# Altium integrated library BB Converter Digital to Analog.IntLib: 269 symbols (part 4 of 6)
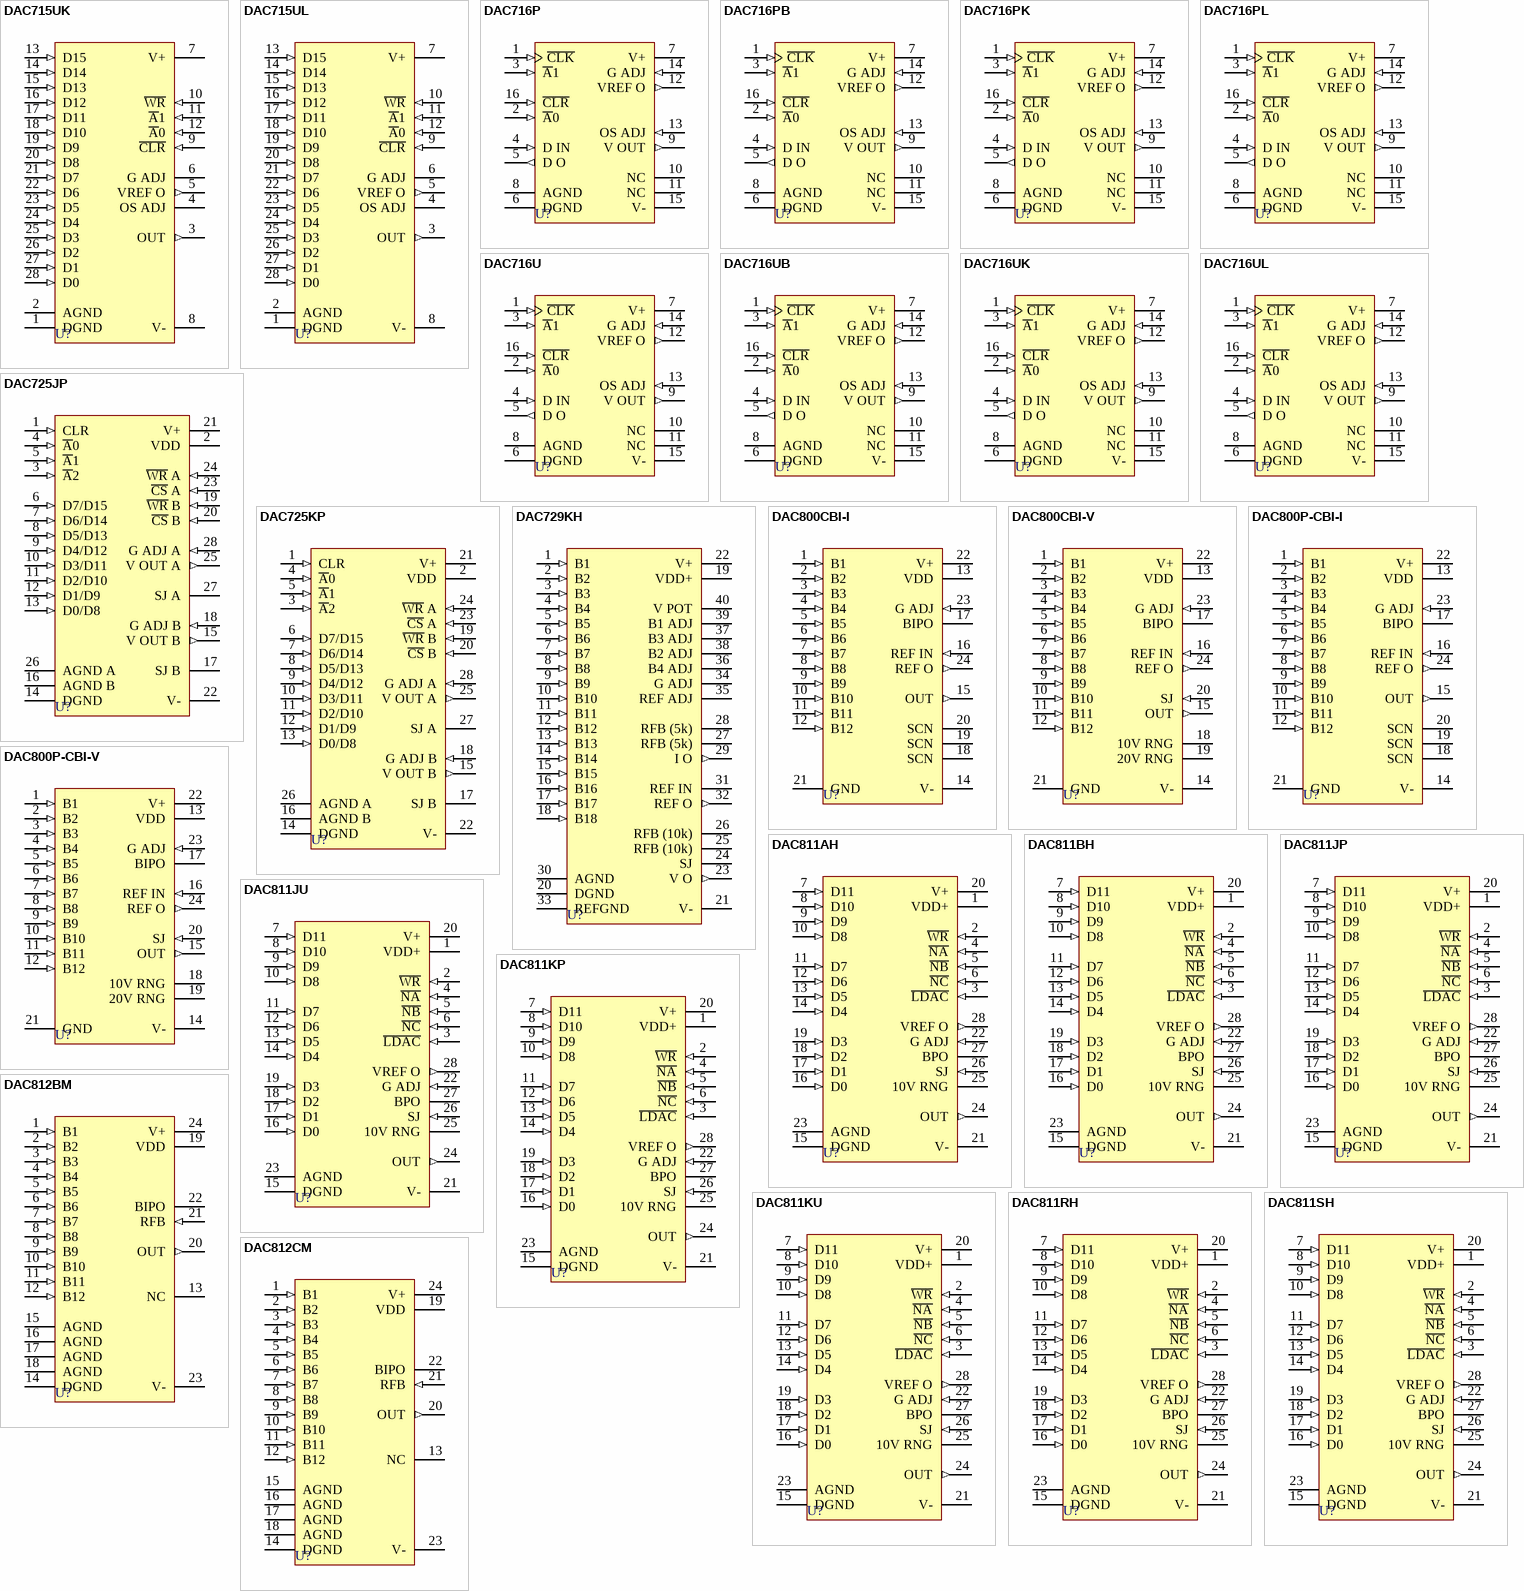
[diagram p13: symbols DAC715UK to DAC812CM]

## DAC812CM
designator U?
Ultra-High-Speed Digital-to-Analog Converter; Note: Pin 13 is No internal Connection pin.; Published: 8-Jun-2000; LatestRevisionDate: 17-Jul-2002; LatestRevisionNote: Re-released for DXP Platform.; DatasheetVersion: 1989; PackageVersion: 1994; PackageReference: ZZ113; Publisher: Altium Limited; PackageDescription: DIP; 24 Round Pins; Row Space 15.24 mm; Pitch 2.54 mm; ComponentLink1Description: Manufacturer Link; ComponentLink1URL: http://www.ti.com/
footprint ZZ113 (DIP; 24 Round Pins; Row Space 15.24 mm; Pitch 2.54 mm)
pins: 1 B1 (in), 2 B2 (in), 3 B3 (in), 4 B4 (in), 5 B5 (in), 6 B6 (in), 7 B7 (in), 8 B8 (in), 9 B9 (in), 10 B10 (in), 11 B11 (in), 12 B12 (in), 13 NC, 14 DGND (power), 15 AGND (power), 16 AGND (power), 17 AGND (power), 18 AGND (power), 19 VDD (power), 20 OUT (out), 21 RFB (in), 22 BIPO, 23 V- (power), 24 V+ (power)

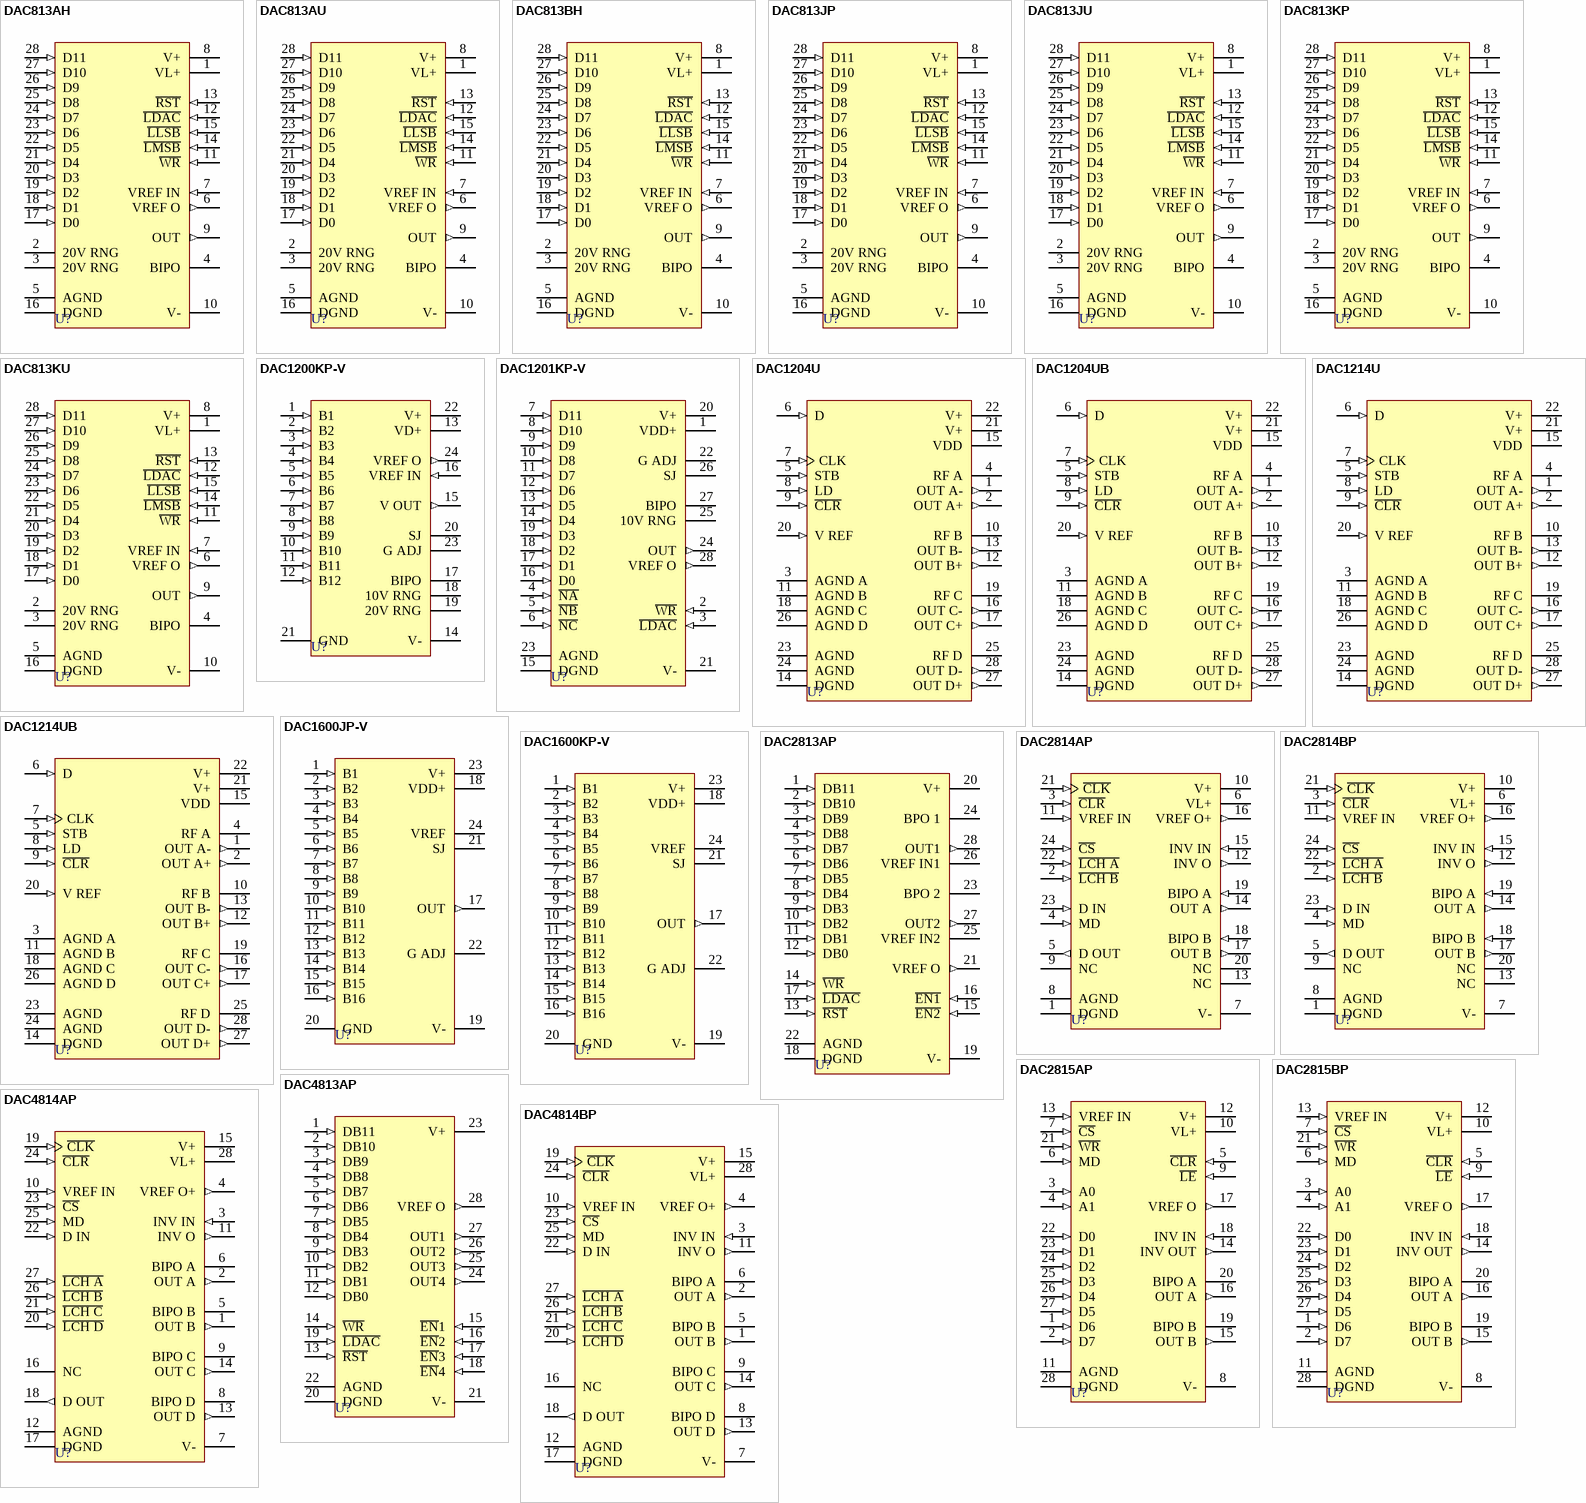
[diagram p6: symbols DAC813AH to DAC4814BP]

## DAC813AH
designator U?
Microprocessor-Compatible 12-Bit Digital-to-Analog Converter; Published: 8-Jun-2000; LatestRevisionDate: 06-Jun-2005; LatestRevisionNote: Stylized 3D Model Added.; DatasheetVersion: 1996~1997; PackageVersion: 1994; PackageReference: 247; Publisher: Altium Limited; PackageDescription: DIP; 28 Leads; Row Spacing 7.62 mm; Pitch 2.54 mm; ComponentLink1Description: Manufacturer Link; ComponentLink1URL: http://www.ti.com/; ComponentLink2Description: Datasheet; ComponentLink2URL: http://www-s.ti.com/sc/ds/dac813.pdf
footprint 247 (DIP; 28 Leads; Row Spacing 7.62 mm; Pitch 2.54 mm)
3D model 246D (DIP; 28 Leads; Row Spacing 7.62 mm; Pitch 2.54 mm)
pins: 1 VL+ (power), 2 20V RNG, 3 20V RNG, 4 BIPO, 5 AGND (power), 6 VREF O (out), 7 VREF IN (in), 8 V+ (power), 9 OUT (out), 10 V- (power), 11 ~{WR} (in), 12 ~{LDAC} (in), 13 ~{RST} (in), 14 ~{LMSB} (in), 15 ~{LLSB} (in), 16 DGND (power), 17 D0 (in), 18 D1 (in), 19 D2 (in), 20 D3 (in), 21 D4 (in), 22 D5 (in), 23 D6 (in), 24 D7 (in), 25 D8 (in), 26 D9 (in), 27 D10 (in), 28 D11 (in)

## DAC813AU
designator U?
Microprocessor-Compatible 12-Bit Digital-to-Analog Converter; Published: 8-Jun-2000; LatestRevisionDate: 13-Apr-2006; LatestRevisionNote: IPC-7351 Footprint Added.; DatasheetVersion: Mar-1998; PackageReference: 217G; Publisher: Altium Limited; PackageDescription: 28-Pin Small Outline Integrated Circuit 1.27 mm Pitch; ComponentLink1Description: Manufacturer Link; ComponentLink1URL: http://www.ti.com/; ComponentLink2Description: Datasheet; ComponentLink2URL: http://www-s.ti.com/sc/ds/DAC813.pdf
footprint 217G_N (SOIC, 28-Leads, Body 17.9x7.5mm, Pitch 1.27mm, IPC Medium Density)
footprint 217G_L (SOIC, 28-Leads, Body 17.9x7.5mm, Pitch 1.27mm, IPC High Density)
footprint 217G_M (SOIC, 28-Leads, Body 17.9x7.5mm, Pitch 1.27mm, IPC Low Density)
3D model 217G (28-Pin Small Outline Integrated Circuit 1.27 mm Pitch)
pins: 1 VL+ (power), 2 20V RNG, 3 20V RNG, 4 BIPO, 5 AGND (power), 6 VREF O (out), 7 VREF IN (in), 8 V+ (power), 9 OUT (out), 10 V- (power), 11 ~{WR} (in), 12 ~{LDAC} (in), 13 ~{RST} (in), 14 ~{LMSB} (in), 15 ~{LLSB} (in), 16 DGND (power), 17 D0 (in), 18 D1 (in), 19 D2 (in), 20 D3 (in), 21 D4 (in), 22 D5 (in), 23 D6 (in), 24 D7 (in), 25 D8 (in), 26 D9 (in), 27 D10 (in), 28 D11 (in)

## DAC813BH
designator U?
Microprocessor-Compatible 12-Bit Digital-to-Analog Converter; Published: 8-Jun-2000; LatestRevisionDate: 06-Jun-2005; LatestRevisionNote: Stylized 3D Model Added.; DatasheetVersion: 1996~1997; PackageVersion: 1994; PackageReference: 247; Publisher: Altium Limited; PackageDescription: DIP; 28 Leads; Row Spacing 7.62 mm; Pitch 2.54 mm; ComponentLink1Description: Manufacturer Link; ComponentLink1URL: http://www.ti.com/; ComponentLink2Description: Datasheet; ComponentLink2URL: http://www-s.ti.com/sc/ds/dac813.pdf
footprint 247 (DIP; 28 Leads; Row Spacing 7.62 mm; Pitch 2.54 mm)
3D model 246D (DIP; 28 Leads; Row Spacing 7.62 mm; Pitch 2.54 mm)
pins: 1 VL+ (power), 2 20V RNG, 3 20V RNG, 4 BIPO, 5 AGND (power), 6 VREF O (out), 7 VREF IN (in), 8 V+ (power), 9 OUT (out), 10 V- (power), 11 ~{WR} (in), 12 ~{LDAC} (in), 13 ~{RST} (in), 14 ~{LMSB} (in), 15 ~{LLSB} (in), 16 DGND (power), 17 D0 (in), 18 D1 (in), 19 D2 (in), 20 D3 (in), 21 D4 (in), 22 D5 (in), 23 D6 (in), 24 D7 (in), 25 D8 (in), 26 D9 (in), 27 D10 (in), 28 D11 (in)

## DAC813JP
designator U?
Microprocessor-Compatible 12-Bit Digital-to-Analog Converter; Published: 8-Jun-2000; LatestRevisionDate: 06-Jun-2005; LatestRevisionNote: Stylized 3D Model Added.; DatasheetVersion: Mar-1998; PackageVersion: revD; PackageReference: 246D; Publisher: Altium Limited; PackageDescription: DIP; 28 Leads; Row Spacing 7.62 mm; Pitch 2.54 mm; ComponentLink1Description: Manufacturer Link; ComponentLink1URL: http://www.ti.com/; ComponentLink2Description: Datasheet; ComponentLink2URL: http://www-s.ti.com/sc/ds/DAC813.pdf
footprint 246D (DIP; 28 Leads; Row Spacing 7.62 mm; Pitch 2.54 mm)
3D model 246D (DIP; 28 Leads; Row Spacing 7.62 mm; Pitch 2.54 mm)
pins: 1 VL+ (power), 2 20V RNG, 3 20V RNG, 4 BIPO, 5 AGND (power), 6 VREF O (out), 7 VREF IN (in), 8 V+ (power), 9 OUT (out), 10 V- (power), 11 ~{WR} (in), 12 ~{LDAC} (in), 13 ~{RST} (in), 14 ~{LMSB} (in), 15 ~{LLSB} (in), 16 DGND (power), 17 D0 (in), 18 D1 (in), 19 D2 (in), 20 D3 (in), 21 D4 (in), 22 D5 (in), 23 D6 (in), 24 D7 (in), 25 D8 (in), 26 D9 (in), 27 D10 (in), 28 D11 (in)

## DAC813JU
designator U?
Microprocessor-Compatible 12-Bit Digital-to-Analog Converter; Published: 8-Jun-2000; LatestRevisionDate: 13-Apr-2006; LatestRevisionNote: IPC-7351 Footprint Added.; DatasheetVersion: Mar-1998; PackageReference: 217G; Publisher: Altium Limited; PackageDescription: 28-Pin Small Outline Integrated Circuit 1.27 mm Pitch; ComponentLink1Description: Manufacturer Link; ComponentLink1URL: http://www.ti.com/; ComponentLink2Description: Datasheet; ComponentLink2URL: http://www-s.ti.com/sc/ds/DAC813.pdf
footprint 217G_N (SOIC, 28-Leads, Body 17.9x7.5mm, Pitch 1.27mm, IPC Medium Density)
footprint 217G_L (SOIC, 28-Leads, Body 17.9x7.5mm, Pitch 1.27mm, IPC High Density)
footprint 217G_M (SOIC, 28-Leads, Body 17.9x7.5mm, Pitch 1.27mm, IPC Low Density)
3D model 217G (28-Pin Small Outline Integrated Circuit 1.27 mm Pitch)
pins: 1 VL+ (power), 2 20V RNG, 3 20V RNG, 4 BIPO, 5 AGND (power), 6 VREF O (out), 7 VREF IN (in), 8 V+ (power), 9 OUT (out), 10 V- (power), 11 ~{WR} (in), 12 ~{LDAC} (in), 13 ~{RST} (in), 14 ~{LMSB} (in), 15 ~{LLSB} (in), 16 DGND (power), 17 D0 (in), 18 D1 (in), 19 D2 (in), 20 D3 (in), 21 D4 (in), 22 D5 (in), 23 D6 (in), 24 D7 (in), 25 D8 (in), 26 D9 (in), 27 D10 (in), 28 D11 (in)

## DAC813KP
designator U?
Microprocessor-Compatible 12-Bit Digital-to-Analog Converter; Published: 8-Jun-2000; LatestRevisionDate: 06-Jun-2005; LatestRevisionNote: Stylized 3D Model Added.; DatasheetVersion: Mar-1998; PackageVersion: revD; PackageReference: 246D; Publisher: Altium Limited; PackageDescription: DIP; 28 Leads; Row Spacing 7.62 mm; Pitch 2.54 mm; ComponentLink1Description: Manufacturer Link; ComponentLink1URL: http://www.ti.com/; ComponentLink2Description: Datasheet; ComponentLink2URL: http://www-s.ti.com/sc/ds/DAC813.pdf
footprint 246D (DIP; 28 Leads; Row Spacing 7.62 mm; Pitch 2.54 mm)
3D model 246D (DIP; 28 Leads; Row Spacing 7.62 mm; Pitch 2.54 mm)
pins: 1 VL+ (power), 2 20V RNG, 3 20V RNG, 4 BIPO, 5 AGND (power), 6 VREF O (out), 7 VREF IN (in), 8 V+ (power), 9 OUT (out), 10 V- (power), 11 ~{WR} (in), 12 ~{LDAC} (in), 13 ~{RST} (in), 14 ~{LMSB} (in), 15 ~{LLSB} (in), 16 DGND (power), 17 D0 (in), 18 D1 (in), 19 D2 (in), 20 D3 (in), 21 D4 (in), 22 D5 (in), 23 D6 (in), 24 D7 (in), 25 D8 (in), 26 D9 (in), 27 D10 (in), 28 D11 (in)

## DAC813KU
designator U?
Microprocessor-Compatible 12-Bit Digital-to-Analog Converter; Published: 8-Jun-2000; LatestRevisionDate: 13-Apr-2006; LatestRevisionNote: IPC-7351 Footprint Added.; DatasheetVersion: Mar-1998; PackageReference: 217G; Publisher: Altium Limited; PackageDescription: 28-Pin Small Outline Integrated Circuit 1.27 mm Pitch; ComponentLink1Description: Manufacturer Link; ComponentLink1URL: http://www.ti.com/; ComponentLink2Description: Datasheet; ComponentLink2URL: http://www-s.ti.com/sc/ds/DAC813.pdf
footprint 217G_N (SOIC, 28-Leads, Body 17.9x7.5mm, Pitch 1.27mm, IPC Medium Density)
footprint 217G_L (SOIC, 28-Leads, Body 17.9x7.5mm, Pitch 1.27mm, IPC High Density)
footprint 217G_M (SOIC, 28-Leads, Body 17.9x7.5mm, Pitch 1.27mm, IPC Low Density)
3D model 217G (28-Pin Small Outline Integrated Circuit 1.27 mm Pitch)
pins: 1 VL+ (power), 2 20V RNG, 3 20V RNG, 4 BIPO, 5 AGND (power), 6 VREF O (out), 7 VREF IN (in), 8 V+ (power), 9 OUT (out), 10 V- (power), 11 ~{WR} (in), 12 ~{LDAC} (in), 13 ~{RST} (in), 14 ~{LMSB} (in), 15 ~{LLSB} (in), 16 DGND (power), 17 D0 (in), 18 D1 (in), 19 D2 (in), 20 D3 (in), 21 D4 (in), 22 D5 (in), 23 D6 (in), 24 D7 (in), 25 D8 (in), 26 D9 (in), 27 D10 (in), 28 D11 (in)

## DAC1200KP-V
designator U?
Integrated Circuit 12-Bit Resolution Digital-to-Analog Converter; Published: 8-Jun-2000; LatestRevisionDate: 06-Jun-2005; LatestRevisionNote: Stylized 3D Model Added.; DatasheetVersion: 1989; PackageReference: DIP24D; Publisher: Altium Limited; PackageDescription: DIP; 24 Leads; Row Spacing 15.24 mm; Pitch 2.54 mm; Code_JEDEC: MS-011-AA; ComponentLink1Description: Manufacturer Link; ComponentLink1URL: http://www.ti.com/
footprint DIP24D (DIP; 24 Leads; Row Spacing 15.24 mm; Pitch 2.54 mm)
3D model DIP24D (DIP; 24 Leads; Row Spacing 15.24 mm; Pitch 2.54 mm)
pins: 1 B1 (in), 2 B2 (in), 3 B3 (in), 4 B4 (in), 5 B5 (in), 6 B6 (in), 7 B7 (in), 8 B8 (in), 9 B9 (in), 10 B10 (in), 11 B11 (in), 12 B12 (in), 13 VD+ (power), 14 V- (power), 15 V OUT (out), 16 VREF IN (in), 17 BIPO, 18 10V RNG, 19 20V RNG, 20 SJ, 21 GND (power), 22 V+ (power), 23 G ADJ, 24 VREF O (out)

## DAC1201KP-V
designator U?
Monolithic Microprocessor-Compatible 12-Bit Resolution Digital-to-Analog Converter; ComponentAvailability: Obsolete; Published: 8-Jun-2000; LatestRevisionDate: 06-Jun-2005; LatestRevisionNote: Stylized 3D Model Added.; DatasheetVersion: 1989; PackageReference: P28; Publisher: Altium Limited; PackageDescription: DIP; 28 Leads; Row Spacing 15.24 mm; Pitch 2.54 mm; ComponentLink1Description: Manufacturer Link; ComponentLink1URL: http://www.ti.com/; ComponentLink2Description: Datasheet; ComponentLink2URL: http://www-s.ti.com/sc/ds/dac1201.pdf
footprint P28 (DIP; 28 Leads; Row Spacing 15.24 mm; Pitch 2.54 mm)
3D model P28 (DIP; 28 Leads; Row Spacing 15.24 mm; Pitch 2.54 mm)
pins: 1 VDD+ (power), 2 ~{WR} (in), 3 ~{LDAC} (in), 4 ~{NA} (in), 5 ~{NB} (in), 6 ~{NC} (in), 7 D11 (in), 8 D10 (in), 9 D9 (in), 10 D8 (in), 11 D7 (in), 12 D6 (in), 13 D5 (in), 14 D4 (in), 15 DGND (power), 16 D0 (in), 17 D1 (in), 18 D2 (in), 19 D3 (in), 20 V+ (power), 21 V- (power), 22 G ADJ, 23 AGND (power), 24 OUT (out), 25 10V RNG, 26 SJ, 27 BIPO, 28 VREF O (out)

## DAC1204U
designator U?
QUAD Monolithic 12-Bit Digital-to-Analog Converter (Serial Interface); Published: 8-Jun-2000; LatestRevisionDate: 13-Apr-2006; LatestRevisionNote: IPC-7351 Footprint Added.; DatasheetVersion: 1995; PackageVersion: 1994; PackageReference: ZZ809; Publisher: Altium Limited; PackageDescription: 28-Pin Small Outline Integrated Circuit 1.27 mm Pitch; ComponentLink1Description: Manufacturer Link; ComponentLink1URL: http://www.ti.com/
footprint ZZ809_N (SOIC, 28-Leads, Body 17.9x7.5mm, Pitch 1.27mm, IPC Medium Density)
footprint ZZ809_L (SOIC, 28-Leads, Body 17.9x7.5mm, Pitch 1.27mm, IPC High Density)
footprint ZZ809_M (SOIC, 28-Leads, Body 17.9x7.5mm, Pitch 1.27mm, IPC Low Density)
3D model ZZ809 (28-Pin Small Outline Integrated Circuit 1.27 mm Pitch)
pins: 1 OUT A- (out), 2 OUT A+ (out), 3 AGND A (power), 4 RF A, 5 STB (in), 6 D (in), 7 CLK (in), 8 LD (in), 9 ~{CLR} (in), 10 RF B, 11 AGND B (power), 12 OUT B+ (out), 13 OUT B- (out), 14 DGND (power), 15 VDD (power), 16 OUT C- (out), 17 OUT C+ (out), 18 AGND C (power), 19 RF C, 20 V REF (in), 21 V+ (power), 22 V+ (power), 23 AGND (power), 24 AGND (power), 25 RF D, 26 AGND D (power), 27 OUT D+ (out), 28 OUT D- (out)

## DAC1204UB
designator U?
QUAD Monolithic 12-Bit Digital-to-Analog Converter (Serial Interface); Published: 8-Jun-2000; LatestRevisionDate: 13-Apr-2006; LatestRevisionNote: IPC-7351 Footprint Added.; DatasheetVersion: 1995; PackageVersion: 1994; PackageReference: ZZ809; Publisher: Altium Limited; PackageDescription: 28-Pin Small Outline Integrated Circuit 1.27 mm Pitch; ComponentLink1Description: Manufacturer Link; ComponentLink1URL: http://www.ti.com/
footprint ZZ809_N (SOIC, 28-Leads, Body 17.9x7.5mm, Pitch 1.27mm, IPC Medium Density)
footprint ZZ809_L (SOIC, 28-Leads, Body 17.9x7.5mm, Pitch 1.27mm, IPC High Density)
footprint ZZ809_M (SOIC, 28-Leads, Body 17.9x7.5mm, Pitch 1.27mm, IPC Low Density)
3D model ZZ809 (28-Pin Small Outline Integrated Circuit 1.27 mm Pitch)
pins: 1 OUT A- (out), 2 OUT A+ (out), 3 AGND A (power), 4 RF A, 5 STB (in), 6 D (in), 7 CLK (in), 8 LD (in), 9 ~{CLR} (in), 10 RF B, 11 AGND B (power), 12 OUT B+ (out), 13 OUT B- (out), 14 DGND (power), 15 VDD (power), 16 OUT C- (out), 17 OUT C+ (out), 18 AGND C (power), 19 RF C, 20 V REF (in), 21 V+ (power), 22 V+ (power), 23 AGND (power), 24 AGND (power), 25 RF D, 26 AGND D (power), 27 OUT D+ (out), 28 OUT D- (out)

## DAC1214U
designator U?
QUAD Monolithic 12-Bit Digital-to-Analog Converter (Serial Interface); Published: 8-Jun-2000; LatestRevisionDate: 13-Apr-2006; LatestRevisionNote: IPC-7351 Footprint Added.; DatasheetVersion: 1995; PackageVersion: 1994; PackageReference: ZZ809; Publisher: Altium Limited; PackageDescription: 28-Pin Small Outline Integrated Circuit 1.27 mm Pitch; ComponentLink1Description: Manufacturer Link; ComponentLink1URL: http://www.ti.com/
footprint ZZ809_N (SOIC, 28-Leads, Body 17.9x7.5mm, Pitch 1.27mm, IPC Medium Density)
footprint ZZ809_L (SOIC, 28-Leads, Body 17.9x7.5mm, Pitch 1.27mm, IPC High Density)
footprint ZZ809_M (SOIC, 28-Leads, Body 17.9x7.5mm, Pitch 1.27mm, IPC Low Density)
3D model ZZ809 (28-Pin Small Outline Integrated Circuit 1.27 mm Pitch)
pins: 1 OUT A- (out), 2 OUT A+ (out), 3 AGND A (power), 4 RF A, 5 STB (in), 6 D (in), 7 CLK (in), 8 LD (in), 9 ~{CLR} (in), 10 RF B, 11 AGND B (power), 12 OUT B+ (out), 13 OUT B- (out), 14 DGND (power), 15 VDD (power), 16 OUT C- (out), 17 OUT C+ (out), 18 AGND C (power), 19 RF C, 20 V REF (in), 21 V+ (power), 22 V+ (power), 23 AGND (power), 24 AGND (power), 25 RF D, 26 AGND D (power), 27 OUT D+ (out), 28 OUT D- (out)

## DAC1214UB
designator U?
QUAD Monolithic 12-Bit Digital-to-Analog Converter (Serial Interface); Published: 8-Jun-2000; LatestRevisionDate: 13-Apr-2006; LatestRevisionNote: IPC-7351 Footprint Added.; DatasheetVersion: 1995; PackageVersion: 1994; PackageReference: ZZ809; Publisher: Altium Limited; PackageDescription: 28-Pin Small Outline Integrated Circuit 1.27 mm Pitch; ComponentLink1Description: Manufacturer Link; ComponentLink1URL: http://www.ti.com/
footprint ZZ809_N (SOIC, 28-Leads, Body 17.9x7.5mm, Pitch 1.27mm, IPC Medium Density)
footprint ZZ809_L (SOIC, 28-Leads, Body 17.9x7.5mm, Pitch 1.27mm, IPC High Density)
footprint ZZ809_M (SOIC, 28-Leads, Body 17.9x7.5mm, Pitch 1.27mm, IPC Low Density)
3D model ZZ809 (28-Pin Small Outline Integrated Circuit 1.27 mm Pitch)
pins: 1 OUT A- (out), 2 OUT A+ (out), 3 AGND A (power), 4 RF A, 5 STB (in), 6 D (in), 7 CLK (in), 8 LD (in), 9 ~{CLR} (in), 10 RF B, 11 AGND B (power), 12 OUT B+ (out), 13 OUT B- (out), 14 DGND (power), 15 VDD (power), 16 OUT C- (out), 17 OUT C+ (out), 18 AGND C (power), 19 RF C, 20 V REF (in), 21 V+ (power), 22 V+ (power), 23 AGND (power), 24 AGND (power), 25 RF D, 26 AGND D (power), 27 OUT D+ (out), 28 OUT D- (out)

## DAC1600JP-V
designator U?
Monolithic 16-Bit Resolution Digital-to-Analog Converter; ComponentAvailability: Obsolete; Published: 8-Jun-2000; LatestRevisionDate: 06-Jun-2005; LatestRevisionNote: Stylized 3D Model Added.; DatasheetVersion: 1989; PackageReference: 243A; Publisher: Altium Limited; PackageDescription: DIP; 24 Leads; Row Spacing 15.24 mm; Pitch 2.54 mm; Code_JEDEC: MS-011-AA; ComponentLink1Description: Manufacturer Link; ComponentLink1URL: http://www.ti.com/; ComponentLink2Description: Datasheet; ComponentLink2URL: http://www-s.ti.com/sc/ds/dac1600.pdf
footprint 243A (DIP; 24 Leads; Row Spacing 15.24 mm; Pitch 2.54 mm)
3D model DIP24D (DIP; 24 Leads; Row Spacing 15.24 mm; Pitch 2.54 mm)
pins: 1 B1 (in), 2 B2 (in), 3 B3 (in), 4 B4 (in), 5 B5 (in), 6 B6 (in), 7 B7 (in), 8 B8 (in), 9 B9 (in), 10 B10 (in), 11 B11 (in), 12 B12 (in), 13 B13 (in), 14 B14 (in), 15 B15 (in), 16 B16 (in), 17 OUT (out), 18 VDD+ (power), 19 V- (power), 20 GND (power), 21 SJ, 22 G ADJ, 23 V+ (power), 24 VREF (hiz)

## DAC1600KP-V
designator U?
Monolithic 16-Bit Resolution Digital-to-Analog Converter; ComponentAvailability: Obsolete; Published: 8-Jun-2000; LatestRevisionDate: 06-Jun-2005; LatestRevisionNote: Stylized 3D Model Added.; DatasheetVersion: 1989; PackageReference: 243A; Publisher: Altium Limited; PackageDescription: DIP; 24 Leads; Row Spacing 15.24 mm; Pitch 2.54 mm; Code_JEDEC: MS-011-AA; ComponentLink1Description: Manufacturer Link; ComponentLink1URL: http://www.ti.com/; ComponentLink2Description: Datasheet; ComponentLink2URL: http://www-s.ti.com/sc/ds/dac1600.pdf
footprint 243A (DIP; 24 Leads; Row Spacing 15.24 mm; Pitch 2.54 mm)
3D model DIP24D (DIP; 24 Leads; Row Spacing 15.24 mm; Pitch 2.54 mm)
pins: 1 B1 (in), 2 B2 (in), 3 B3 (in), 4 B4 (in), 5 B5 (in), 6 B6 (in), 7 B7 (in), 8 B8 (in), 9 B9 (in), 10 B10 (in), 11 B11 (in), 12 B12 (in), 13 B13 (in), 14 B14 (in), 15 B15 (in), 16 B16 (in), 17 OUT (out), 18 VDD+ (power), 19 V- (power), 20 GND (power), 21 SJ, 22 G ADJ, 23 V+ (power), 24 VREF (hiz)

## DAC2813AP
designator U?
Dual 12-Bit Digital-to-Analog Converter (12-Bit Port Interface); Published: 8-Jun-2000; LatestRevisionDate: 06-Jun-2005; LatestRevisionNote: Stylized 3D Model Added.; DatasheetVersion: Oct-1993; PackageVersion: revJ; PackageReference: 215J; Publisher: Altium Limited; PackageDescription: DIP; 28 Leads; Row Spacing 15.24 mm; Pitch 2.54 mm; Code_JEDEC: MS-011-AB; ComponentLink1Description: Manufacturer Link; ComponentLink1URL: http://www.ti.com/; ComponentLink2Description: Datasheet; ComponentLink2URL: http://www-s.ti.com/sc/ds/DAC2813.pdf
footprint 215J (DIP; 28 Leads; Row Spacing 15.24 mm; Pitch 2.54 mm)
3D model 215J (DIP; 28 Leads; Row Spacing 15.24 mm; Pitch 2.54 mm)
pins: 1 DB11 (in), 2 DB10 (in), 3 DB9 (in), 4 DB8 (in), 5 DB7 (in), 6 DB6 (in), 7 DB5 (in), 8 DB4 (in), 9 DB3 (in), 10 DB2 (in), 11 DB1 (in), 12 DB0 (in), 13 ~{RST} (in), 14 ~{WR} (in), 15 ~{EN2} (in), 16 ~{EN1} (in), 17 ~{LDAC} (in), 18 DGND (power), 19 V- (power), 20 V+ (power), 21 VREF O (out), 22 AGND (power), 23 BPO 2, 24 BPO 1, 25 VREF IN2, 26 VREF IN1, 27 OUT2 (out), 28 OUT1 (out)

## DAC2814AP
designator U?
Dual 12-Bit Digital-to-Analog Converter (Serial Interface); Note: Pins 9, 13 and 20 are No internal Connection (NC) pins.; Published: 8-Jun-2000; LatestRevisionDate: 06-Jun-2005; LatestRevisionNote: Stylized 3D Model Added.; DatasheetVersion: Oct-1993; PackageVersion: revH; PackageReference: 167H; Publisher: Altium Limited; PackageDescription: DIP; 24 Leads; Row Spacing 15.24 mm; Pitch 2.54 mm; Code_JEDEC: MS-011-AA; ComponentLink1Description: Manufacturer Link; ComponentLink1URL: http://www.ti.com/; ComponentLink2Description: Datasheet; ComponentLink2URL: http://www-s.ti.com/sc/ds/DAC2814.pdf
footprint 167H (DIP; 24 Leads; Row Spacing 15.24 mm; Pitch 2.54 mm)
3D model DIP24D (DIP; 24 Leads; Row Spacing 15.24 mm; Pitch 2.54 mm)
pins: 1 DGND (power), 2 ~{LCH B} (in), 3 ~{CLR} (in), 4 MD (in), 5 D OUT (out), 6 VL+ (power), 7 V- (power), 8 AGND (power), 9 NC, 10 V+ (power), 11 VREF IN (in), 12 INV O (out), 13 NC, 14 OUT A (out), 15 INV IN (in), 16 VREF O+ (out), 17 OUT B (out), 18 BIPO B (in), 19 BIPO A (in), 20 NC, 21 ~{CLK} (in), 22 ~{LCH A} (in), 23 D IN (in), 24 ~{CS} (in)

## DAC2814BP
designator U?
Dual 12-Bit Digital-to-Analog Converter (Serial Interface); Note: Pins 9, 13 and 20 are No internal Connection (NC) pins.; Published: 8-Jun-2000; LatestRevisionDate: 06-Jun-2005; LatestRevisionNote: Stylized 3D Model Added.; DatasheetVersion: Oct-1993; PackageVersion: revH; PackageReference: 167H; Publisher: Altium Limited; PackageDescription: DIP; 24 Leads; Row Spacing 15.24 mm; Pitch 2.54 mm; Code_JEDEC: MS-011-AA; ComponentLink1Description: Manufacturer Link; ComponentLink1URL: http://www.ti.com/; ComponentLink2Description: Datasheet; ComponentLink2URL: http://www-s.ti.com/sc/ds/DAC2814.pdf
footprint 167H (DIP; 24 Leads; Row Spacing 15.24 mm; Pitch 2.54 mm)
3D model DIP24D (DIP; 24 Leads; Row Spacing 15.24 mm; Pitch 2.54 mm)
pins: 1 DGND (power), 2 ~{LCH B} (in), 3 ~{CLR} (in), 4 MD (in), 5 D OUT (out), 6 VL+ (power), 7 V- (power), 8 AGND (power), 9 NC, 10 V+ (power), 11 VREF IN (in), 12 INV O (out), 13 NC, 14 OUT A (out), 15 INV IN (in), 16 VREF O+ (out), 17 OUT B (out), 18 BIPO B (in), 19 BIPO A (in), 20 NC, 21 ~{CLK} (in), 22 ~{LCH A} (in), 23 D IN (in), 24 ~{CS} (in)

## DAC2815AP
designator U?
Dual 12-Bit Digital-to-Analog Converter (8-Bit Port Interface); Published: 8-Jun-2000; LatestRevisionDate: 06-Jun-2005; LatestRevisionNote: Stylized 3D Model Added.; DatasheetVersion: Oct-1993; PackageVersion: revJ; PackageReference: 215J; Publisher: Altium Limited; PackageDescription: DIP; 28 Leads; Row Spacing 15.24 mm; Pitch 2.54 mm; Code_JEDEC: MS-011-AB; ComponentLink1Description: Manufacturer Link; ComponentLink1URL: http://www.ti.com/; ComponentLink2Description: Datasheet; ComponentLink2URL: http://www-s.ti.com/sc/ds/DAC2815.pdf
footprint 215J (DIP; 28 Leads; Row Spacing 15.24 mm; Pitch 2.54 mm)
3D model 215J (DIP; 28 Leads; Row Spacing 15.24 mm; Pitch 2.54 mm)
pins: 1 D6 (in), 2 D7 (in), 3 A0 (in), 4 A1 (in), 5 ~{CLR} (in), 6 MD (in), 7 ~{CS} (in), 8 V- (power), 9 ~{LE} (in), 10 VL+ (power), 11 AGND (power), 12 V+ (power), 13 VREF IN (in), 14 INV OUT (out), 15 OUT B (out), 16 OUT A (out), 17 VREF O (out), 18 INV IN (in), 19 BIPO B, 20 BIPO A, 21 ~{WR} (in), 22 D0 (in), 23 D1 (in), 24 D2 (in), 25 D3 (in), 26 D4 (in), 27 D5 (in), 28 DGND (power)

## DAC2815BP
designator U?
Dual 12-Bit Digital-to-Analog Converter (8-Bit Port Interface); Published: 8-Jun-2000; LatestRevisionDate: 06-Jun-2005; LatestRevisionNote: Stylized 3D Model Added.; DatasheetVersion: Oct-1993; PackageVersion: revJ; PackageReference: 215J; Publisher: Altium Limited; PackageDescription: DIP; 28 Leads; Row Spacing 15.24 mm; Pitch 2.54 mm; Code_JEDEC: MS-011-AB; ComponentLink1Description: Manufacturer Link; ComponentLink1URL: http://www.ti.com/; ComponentLink2Description: Datasheet; ComponentLink2URL: http://www-s.ti.com/sc/ds/DAC2815.pdf
footprint 215J (DIP; 28 Leads; Row Spacing 15.24 mm; Pitch 2.54 mm)
3D model 215J (DIP; 28 Leads; Row Spacing 15.24 mm; Pitch 2.54 mm)
pins: 1 D6 (in), 2 D7 (in), 3 A0 (in), 4 A1 (in), 5 ~{CLR} (in), 6 MD (in), 7 ~{CS} (in), 8 V- (power), 9 ~{LE} (in), 10 VL+ (power), 11 AGND (power), 12 V+ (power), 13 VREF IN (in), 14 INV OUT (out), 15 OUT B (out), 16 OUT A (out), 17 VREF O (out), 18 INV IN (in), 19 BIPO B, 20 BIPO A, 21 ~{WR} (in), 22 D0 (in), 23 D1 (in), 24 D2 (in), 25 D3 (in), 26 D4 (in), 27 D5 (in), 28 DGND (power)

## DAC4813AP
designator U?
Quad 12-Bit Digital-to-Analog Converter (12-Bit Port Interface); Published: 8-Jun-2000; LatestRevisionDate: 06-Jun-2005; LatestRevisionNote: Stylized 3D Model Added.; DatasheetVersion: May-1997; PackageVersion: revJ; PackageReference: 215J; Publisher: Altium Limited; PackageDescription: DIP; 28 Leads; Row Spacing 15.24 mm; Pitch 2.54 mm; Code_JEDEC: MS-011-AB; ComponentLink1Description: Manufacturer Link; ComponentLink1URL: http://www.ti.com/; ComponentLink2Description: Datasheet; ComponentLink2URL: http://www-s.ti.com/sc/ds/DAC4813.pdf
footprint 215J (DIP; 28 Leads; Row Spacing 15.24 mm; Pitch 2.54 mm)
3D model 215J (DIP; 28 Leads; Row Spacing 15.24 mm; Pitch 2.54 mm)
pins: 1 DB11 (in), 2 DB10 (in), 3 DB9 (in), 4 DB8 (in), 5 DB7 (in), 6 DB6 (in), 7 DB5 (in), 8 DB4 (in), 9 DB3 (in), 10 DB2 (in), 11 DB1 (in), 12 DB0 (in), 13 ~{RST} (in), 14 ~{WR} (in), 15 ~{EN}1 (in), 16 ~{EN}2 (in), 17 ~{EN}3 (in), 18 ~{EN}4 (in), 19 ~{LDAC} (in), 20 DGND (power), 21 V- (power), 22 AGND (power), 23 V+ (power), 24 OUT4 (out), 25 OUT3 (out), 26 OUT2 (out), 27 OUT1 (out), 28 VREF O (out)

## DAC4814AP
designator U?
Quad 12-Bit Digital-to-Analog Converter (Serial Interface); Note: Pin 16 is No internal Connection (NC) pin.; Published: 8-Jun-2000; LatestRevisionDate: 06-Jun-2005; LatestRevisionNote: Stylized 3D Model Added.; DatasheetVersion: Apr-1995; PackageVersion: revJ; PackageReference: 215J; Publisher: Altium Limited; PackageDescription: DIP; 28 Leads; Row Spacing 15.24 mm; Pitch 2.54 mm; Code_JEDEC: MS-011-AB; ComponentLink1Description: Manufacturer Link; ComponentLink1URL: http://www.ti.com/; ComponentLink2Description: Datasheet; ComponentLink2URL: http://www-s.ti.com/sc/ds/DAC4814.pdf
footprint 215J (DIP; 28 Leads; Row Spacing 15.24 mm; Pitch 2.54 mm)
3D model 215J (DIP; 28 Leads; Row Spacing 15.24 mm; Pitch 2.54 mm)
pins: 1 OUT B (out), 2 OUT A (out), 3 INV IN (in), 4 VREF O+ (out), 5 BIPO B, 6 BIPO A, 7 V- (power), 8 BIPO D, 9 BIPO C, 10 VREF IN (in), 11 INV O (out), 12 AGND (power), 13 OUT D (out), 14 OUT C (out), 15 V+ (power), 16 NC, 17 DGND (power), 18 D OUT (out), 19 ~{CLK} (in), 20 ~{LCH D} (in), 21 ~{LCH C} (in), 22 D IN (in), 23 ~{CS} (in), 24 ~{CLR} (in), 25 MD (in), 26 ~{LCH B} (in), 27 ~{LCH A} (in), 28 VL+ (power)

## DAC4814BP
designator U?
Quad 12-Bit Digital-to-Analog Converter (Serial Interface); Note: Pin 16 is No internal Connection (NC) pin.; Published: 8-Jun-2000; LatestRevisionDate: 06-Jun-2005; LatestRevisionNote: Stylized 3D Model Added.; DatasheetVersion: Apr-1995; PackageVersion: revJ; PackageReference: 215J; Publisher: Altium Limited; PackageDescription: DIP; 28 Leads; Row Spacing 15.24 mm; Pitch 2.54 mm; Code_JEDEC: MS-011-AB; ComponentLink1Description: Manufacturer Link; ComponentLink1URL: http://www.ti.com/; ComponentLink2Description: Datasheet; ComponentLink2URL: http://www-s.ti.com/sc/ds/DAC4814.pdf
footprint 215J (DIP; 28 Leads; Row Spacing 15.24 mm; Pitch 2.54 mm)
3D model 215J (DIP; 28 Leads; Row Spacing 15.24 mm; Pitch 2.54 mm)
pins: 1 OUT B (out), 2 OUT A (out), 3 INV IN (in), 4 VREF O+ (out), 5 BIPO B, 6 BIPO A, 7 V- (power), 8 BIPO D, 9 BIPO C, 10 VREF IN (in), 11 INV O (out), 12 AGND (power), 13 OUT D (out), 14 OUT C (out), 15 V+ (power), 16 NC, 17 DGND (power), 18 D OUT (out), 19 ~{CLK} (in), 20 ~{LCH D} (in), 21 ~{LCH C} (in), 22 D IN (in), 23 ~{CS} (in), 24 ~{CLR} (in), 25 MD (in), 26 ~{LCH B} (in), 27 ~{LCH A} (in), 28 VL+ (power)

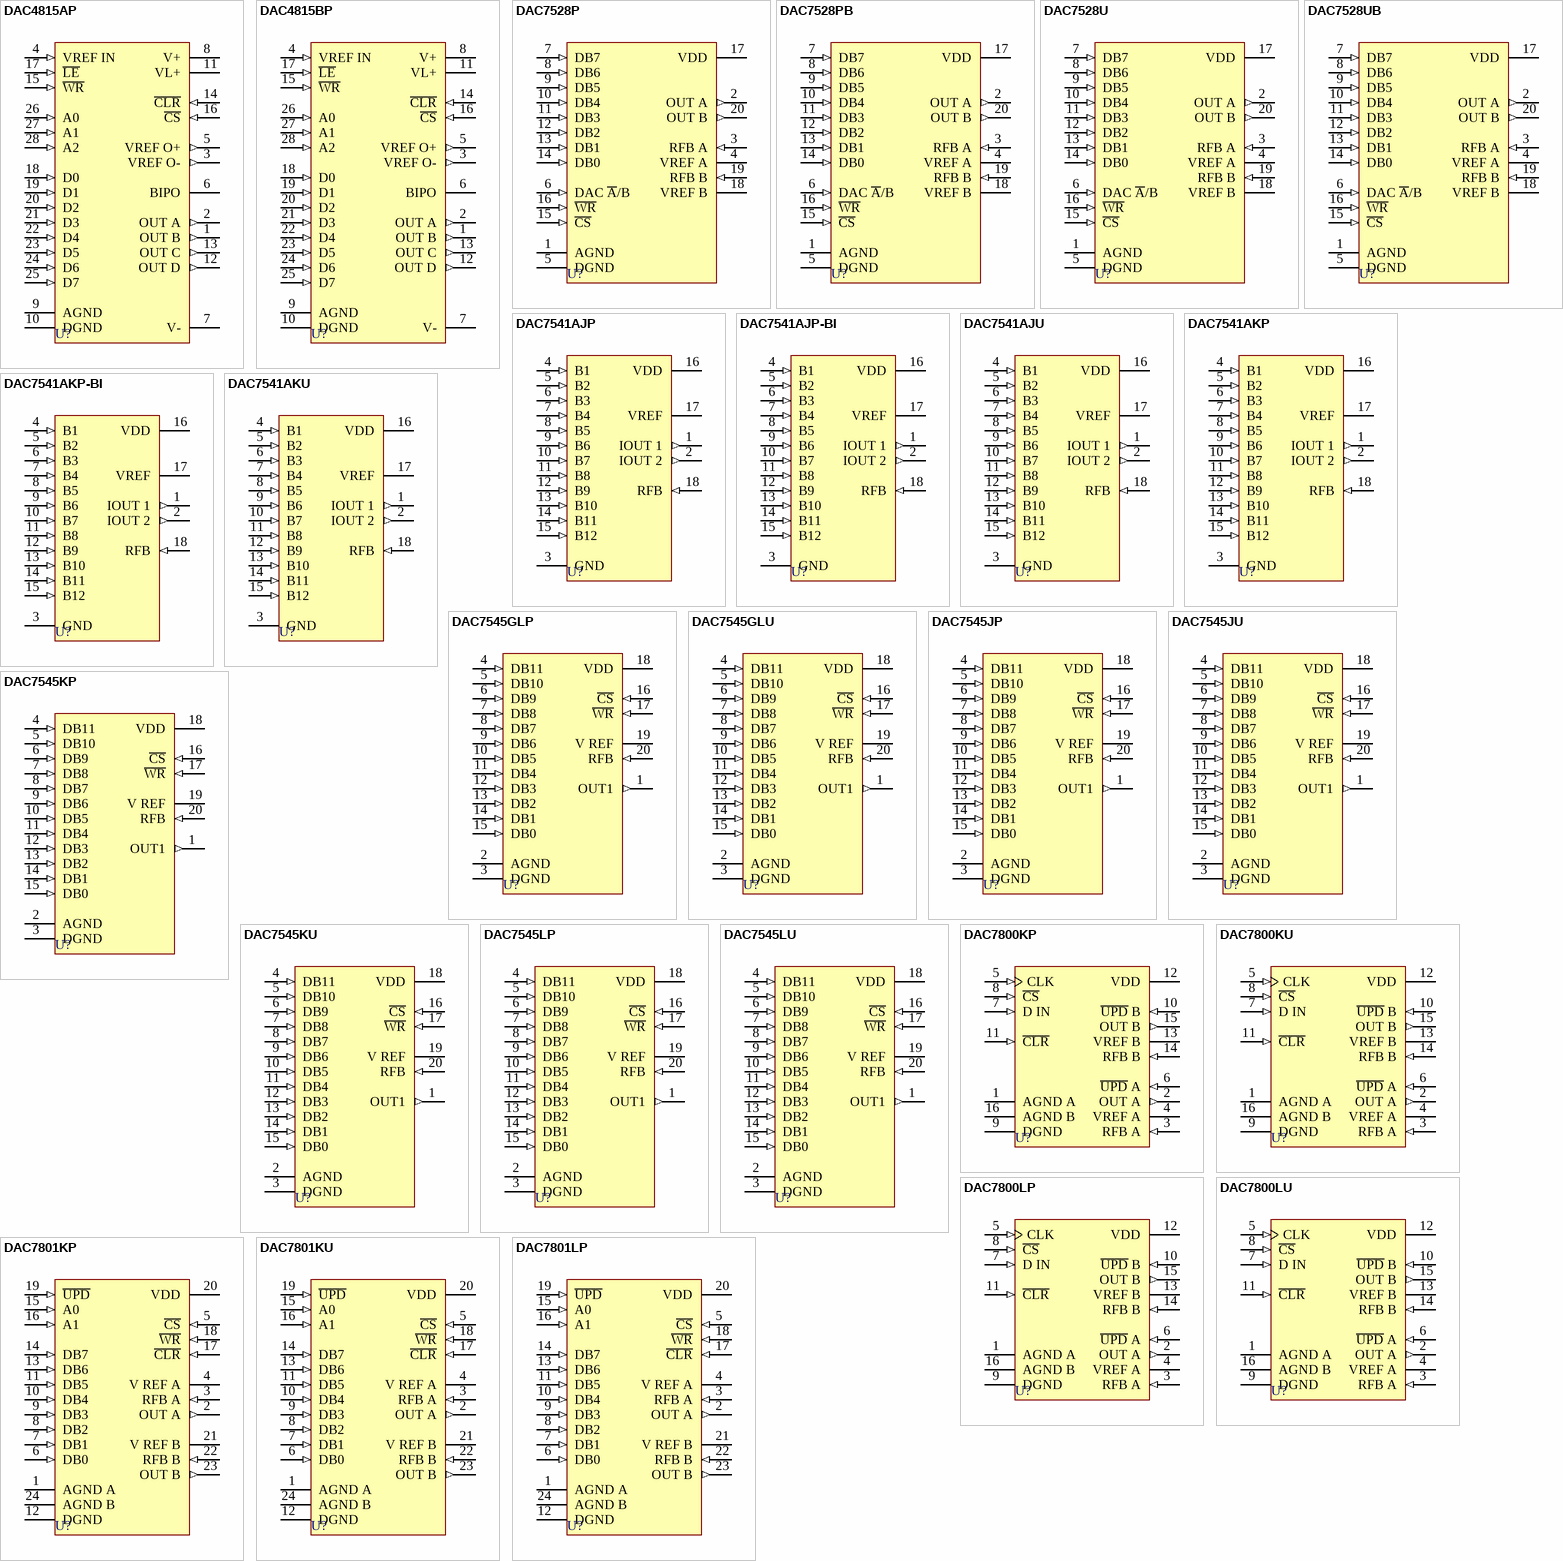
[diagram p7: symbols DAC4815AP to DAC7801LP]

## DAC4815AP
designator U?
Quad 12-Bit Digital-to-Analog Converter (8-Bit Port Interface); Published: 8-Jun-2000; LatestRevisionDate: 06-Jun-2005; LatestRevisionNote: Stylized 3D Model Added.; DatasheetVersion: Oct-1993; PackageVersion: revJ; PackageReference: 215J; Publisher: Altium Limited; PackageDescription: DIP; 28 Leads; Row Spacing 15.24 mm; Pitch 2.54 mm; Code_JEDEC: MS-011-AB; ComponentLink1Description: Manufacturer Link; ComponentLink1URL: http://www.ti.com/; ComponentLink2Description: Datasheet; ComponentLink2URL: http://www-s.ti.com/sc/ds/DAC4815.pdf
footprint 215J (DIP; 28 Leads; Row Spacing 15.24 mm; Pitch 2.54 mm)
3D model 215J (DIP; 28 Leads; Row Spacing 15.24 mm; Pitch 2.54 mm)
pins: 1 OUT B (out), 2 OUT A (out), 3 VREF O- (out), 4 VREF IN (in), 5 VREF O+ (out), 6 BIPO, 7 V- (power), 8 V+ (power), 9 AGND (power), 10 DGND (power), 11 VL+ (power), 12 OUT D (out), 13 OUT C (out), 14 ~{CLR} (in), 15 ~{WR} (in), 16 ~{CS} (in), 17 ~{LE} (in), 18 D0 (in), 19 D1 (in), 20 D2 (in), 21 D3 (in), 22 D4 (in), 23 D5 (in), 24 D6 (in), 25 D7 (in), 26 A0 (in), 27 A1 (in), 28 A2 (in)

## DAC4815BP
designator U?
Quad 12-Bit Digital-to-Analog Converter (8-Bit Port Interface); Published: 8-Jun-2000; LatestRevisionDate: 06-Jun-2005; LatestRevisionNote: Stylized 3D Model Added.; DatasheetVersion: Oct-1993; PackageVersion: revJ; PackageReference: 215J; Publisher: Altium Limited; PackageDescription: DIP; 28 Leads; Row Spacing 15.24 mm; Pitch 2.54 mm; Code_JEDEC: MS-011-AB; ComponentLink1Description: Manufacturer Link; ComponentLink1URL: http://www.ti.com/; ComponentLink2Description: Datasheet; ComponentLink2URL: http://www-s.ti.com/sc/ds/DAC4815.pdf
footprint 215J (DIP; 28 Leads; Row Spacing 15.24 mm; Pitch 2.54 mm)
3D model 215J (DIP; 28 Leads; Row Spacing 15.24 mm; Pitch 2.54 mm)
pins: 1 OUT B (out), 2 OUT A (out), 3 VREF O- (out), 4 VREF IN (in), 5 VREF O+ (out), 6 BIPO, 7 V- (power), 8 V+ (power), 9 AGND (power), 10 DGND (power), 11 VL+ (power), 12 OUT D (out), 13 OUT C (out), 14 ~{CLR} (in), 15 ~{WR} (in), 16 ~{CS} (in), 17 ~{LE} (in), 18 D0 (in), 19 D1 (in), 20 D2 (in), 21 D3 (in), 22 D4 (in), 23 D5 (in), 24 D6 (in), 25 D7 (in), 26 A0 (in), 27 A1 (in), 28 A2 (in)

## DAC7528P
designator U?
CMOS Dual 8-Bit Buffered Multiplying Digital-to-Analog Converter; Published: 8-Jun-2000; LatestRevisionDate: 06-Jun-2005; LatestRevisionNote: Stylized 3D Model Added.; DatasheetVersion: 1996~1997; PackageVersion: revC; PackageReference: 222C; Publisher: Altium Limited; PackageDescription: DIP; 20 Leads; Row Spacing 7.62 mm; Pitch 2.54 mm; Code_JEDEC: MS-001-AD; ComponentLink1Description: Manufacturer Link; ComponentLink1URL: http://www.ti.com/
footprint 222C (DIP; 20 Leads; Row Spacing 7.62 mm; Pitch 2.54 mm)
3D model 222 (DIP; 20 Leads; Row Spacing 7.62 mm; Pitch 2.54 mm)
pins: 1 AGND (power), 2 OUT A (out), 3 RFB A (in), 4 VREF A, 5 DGND (power), 6 DAC ~{A}/B (in), 7 DB7 (in), 8 DB6 (in), 9 DB5 (in), 10 DB4 (in), 11 DB3 (in), 12 DB2 (in), 13 DB1 (in), 14 DB0 (in), 15 ~{CS} (in), 16 ~{WR} (in), 17 VDD (power), 18 VREF B, 19 RFB B (in), 20 OUT B (out)

## DAC7528PB
designator U?
CMOS Dual 8-Bit Buffered Multiplying Digital-to-Analog Converter; Published: 8-Jun-2000; LatestRevisionDate: 06-Jun-2005; LatestRevisionNote: Stylized 3D Model Added.; DatasheetVersion: 1996~1997; PackageVersion: revC; PackageReference: 222C; Publisher: Altium Limited; PackageDescription: DIP; 20 Leads; Row Spacing 7.62 mm; Pitch 2.54 mm; Code_JEDEC: MS-001-AD; ComponentLink1Description: Manufacturer Link; ComponentLink1URL: http://www.ti.com/
footprint 222C (DIP; 20 Leads; Row Spacing 7.62 mm; Pitch 2.54 mm)
3D model 222 (DIP; 20 Leads; Row Spacing 7.62 mm; Pitch 2.54 mm)
pins: 1 AGND (power), 2 OUT A (out), 3 RFB A (in), 4 VREF A, 5 DGND (power), 6 DAC ~{A}/B (in), 7 DB7 (in), 8 DB6 (in), 9 DB5 (in), 10 DB4 (in), 11 DB3 (in), 12 DB2 (in), 13 DB1 (in), 14 DB0 (in), 15 ~{CS} (in), 16 ~{WR} (in), 17 VDD (power), 18 VREF B, 19 RFB B (in), 20 OUT B (out)

## DAC7528U
designator U?
CMOS Dual 8-Bit Buffered Multiplying Digital-to-Analog Converter; Published: 8-Jun-2000; LatestRevisionDate: 13-Apr-2006; LatestRevisionNote: IPC-7351 Footprint Added.; DatasheetVersion: 1996~1997; PackageReference: 221D; Publisher: Altium Limited; PackageDescription: 20-Pin Small Outline Integrated Circuit 1.27 mm Pitch; Code_JEDEC: MS-013-AC; Code_IPC: SOIC127P1030-20; ComponentLink1Description: Manufacturer Link; ComponentLink1URL: http://www.ti.com/
footprint 221D_N (SOIC, 20-Leads, Body 12.8x7.5mm, Pitch 1.27mm, IPC Medium Density)
footprint 221D_L (SOIC, 20-Leads, Body 12.8x7.5mm, Pitch 1.27mm, IPC High Density)
footprint 221D_M (SOIC, 20-Leads, Body 12.8x7.5mm, Pitch 1.27mm, IPC Low Density)
3D model 221 (20-Pin Small Outline Integrated Circuit 1.27 mm Pitch)
pins: 1 AGND (power), 2 OUT A (out), 3 RFB A (in), 4 VREF A, 5 DGND (power), 6 DAC ~{A}/B (in), 7 DB7 (in), 8 DB6 (in), 9 DB5 (in), 10 DB4 (in), 11 DB3 (in), 12 DB2 (in), 13 DB1 (in), 14 DB0 (in), 15 ~{CS} (in), 16 ~{WR} (in), 17 VDD (power), 18 VREF B, 19 RFB B (in), 20 OUT B (out)

## DAC7528UB
designator U?
CMOS Dual 8-Bit Buffered Multiplying Digital-to-Analog Converter; Published: 8-Jun-2000; LatestRevisionDate: 13-Apr-2006; LatestRevisionNote: IPC-7351 Footprint Added.; DatasheetVersion: 1996~1997; PackageReference: 221D; Publisher: Altium Limited; PackageDescription: 20-Pin Small Outline Integrated Circuit 1.27 mm Pitch; Code_JEDEC: MS-013-AC; Code_IPC: SOIC127P1030-20; ComponentLink1Description: Manufacturer Link; ComponentLink1URL: http://www.ti.com/
footprint 221D_N (SOIC, 20-Leads, Body 12.8x7.5mm, Pitch 1.27mm, IPC Medium Density)
footprint 221D_L (SOIC, 20-Leads, Body 12.8x7.5mm, Pitch 1.27mm, IPC High Density)
footprint 221D_M (SOIC, 20-Leads, Body 12.8x7.5mm, Pitch 1.27mm, IPC Low Density)
3D model 221 (20-Pin Small Outline Integrated Circuit 1.27 mm Pitch)
pins: 1 AGND (power), 2 OUT A (out), 3 RFB A (in), 4 VREF A, 5 DGND (power), 6 DAC ~{A}/B (in), 7 DB7 (in), 8 DB6 (in), 9 DB5 (in), 10 DB4 (in), 11 DB3 (in), 12 DB2 (in), 13 DB1 (in), 14 DB0 (in), 15 ~{CS} (in), 16 ~{WR} (in), 17 VDD (power), 18 VREF B, 19 RFB B (in), 20 OUT B (out)

## DAC7541AJP
designator U?
Low-Cost 12-Bit CMOS Four-Quadrant Multiplying Digital-to-Analog Converter; Published: 8-Jun-2000; LatestRevisionDate: 06-Jun-2005; LatestRevisionNote: Stylized 3D Model Added.; DatasheetVersion: Sep-1993; PackageVersion: revD; PackageReference: 218D; Publisher: Altium Limited; PackageDescription: DIP; 18 Leads; Row Spacing 7.62 mm; Pitch 2.54 mm; ComponentLink1Description: Manufacturer Link; ComponentLink1URL: http://www.ti.com/; ComponentLink2Description: Datasheet; ComponentLink2URL: http://www-s.ti.com/sc/ds/DAC7541.pdf
footprint 218D (DIP; 18 Leads; Row Spacing 7.62 mm; Pitch 2.54 mm)
3D model DIP18 (DIP; 18 Leads; Row Spacing 7.62 mm; Pitch 2.54 mm)
pins: 1 IOUT 1 (out), 2 IOUT 2 (out), 3 GND (power), 4 B1 (in), 5 B2 (in), 6 B3 (in), 7 B4 (in), 8 B5 (in), 9 B6 (in), 10 B7 (in), 11 B8 (in), 12 B9 (in), 13 B10 (in), 14 B11 (in), 15 B12 (in), 16 VDD (power), 17 VREF, 18 RFB (in)

## DAC7541AJP-BI
designator U?
Low-Cost 12-Bit CMOS Four-Quadrant Multiplying Digital-to-Analog Converter; Published: 8-Jun-2000; LatestRevisionDate: 06-Jun-2005; LatestRevisionNote: Stylized 3D Model Added.; DatasheetVersion: 1996~1997; PackageVersion: revD; PackageReference: 218D; Publisher: Altium Limited; PackageDescription: DIP; 18 Leads; Row Spacing 7.62 mm; Pitch 2.54 mm; ComponentLink1Description: Manufacturer Link; ComponentLink1URL: http://www.ti.com/; ComponentLink2Description: Datasheet; ComponentLink2URL: http://www-s.ti.com/sc/ds/dac7541.pdf
footprint 218D (DIP; 18 Leads; Row Spacing 7.62 mm; Pitch 2.54 mm)
3D model DIP18 (DIP; 18 Leads; Row Spacing 7.62 mm; Pitch 2.54 mm)
pins: 1 IOUT 1 (out), 2 IOUT 2 (out), 3 GND (power), 4 B1 (in), 5 B2 (in), 6 B3 (in), 7 B4 (in), 8 B5 (in), 9 B6 (in), 10 B7 (in), 11 B8 (in), 12 B9 (in), 13 B10 (in), 14 B11 (in), 15 B12 (in), 16 VDD (power), 17 VREF, 18 RFB (in)

## DAC7541AJU
designator U?
Low-Cost 12-Bit CMOS Four-Quadrant Multiplying Digital-to-Analog Converter; Published: 8-Jun-2000; LatestRevisionDate: 13-Apr-2006; LatestRevisionNote: IPC-7351 Footprint Added.; DatasheetVersion: Sep-1993; PackageReference: 219E; Publisher: Altium Limited; PackageDescription: 18-Pin Small Outline Integrated Circuit 1.27 mm Pitch; Code_JEDEC: MS-013-AB; ComponentLink1Description: Manufacturer Link; ComponentLink1URL: http://www.ti.com/; ComponentLink2Description: Datasheet; ComponentLink2URL: http://www-s.ti.com/sc/ds/DAC7541.pdf
footprint 219E_N (SOIC, 18-Leads, Body 11.6x7.5mm, Pitch 1.27mm, IPC Medium Density)
footprint 219E_L (SOIC, 18-Leads, Body 11.6x7.5mm, Pitch 1.27mm, IPC High Density)
footprint 219E_M (SOIC, 18-Leads, Body 11.6x7.5mm, Pitch 1.27mm, IPC Low Density)
3D model 219E (18-Pin Small Outline Integrated Circuit 1.27 mm Pitch)
pins: 1 IOUT 1 (out), 2 IOUT 2 (out), 3 GND (power), 4 B1 (in), 5 B2 (in), 6 B3 (in), 7 B4 (in), 8 B5 (in), 9 B6 (in), 10 B7 (in), 11 B8 (in), 12 B9 (in), 13 B10 (in), 14 B11 (in), 15 B12 (in), 16 VDD (power), 17 VREF, 18 RFB (in)

## DAC7541AKP
designator U?
Low-Cost 12-Bit CMOS Four-Quadrant Multiplying Digital-to-Analog Converter; Published: 8-Jun-2000; LatestRevisionDate: 06-Jun-2005; LatestRevisionNote: Stylized 3D Model Added.; DatasheetVersion: Sep-1993; PackageVersion: revD; PackageReference: 218D; Publisher: Altium Limited; PackageDescription: DIP; 18 Leads; Row Spacing 7.62 mm; Pitch 2.54 mm; ComponentLink1Description: Manufacturer Link; ComponentLink1URL: http://www.ti.com/; ComponentLink2Description: Datasheet; ComponentLink2URL: http://www-s.ti.com/sc/ds/DAC7541.pdf
footprint 218D (DIP; 18 Leads; Row Spacing 7.62 mm; Pitch 2.54 mm)
3D model DIP18 (DIP; 18 Leads; Row Spacing 7.62 mm; Pitch 2.54 mm)
pins: 1 IOUT 1 (out), 2 IOUT 2 (out), 3 GND (power), 4 B1 (in), 5 B2 (in), 6 B3 (in), 7 B4 (in), 8 B5 (in), 9 B6 (in), 10 B7 (in), 11 B8 (in), 12 B9 (in), 13 B10 (in), 14 B11 (in), 15 B12 (in), 16 VDD (power), 17 VREF, 18 RFB (in)

## DAC7541AKP-BI
designator U?
Low-Cost 12-Bit CMOS Four-Quadrant Multiplying Digital-to-Analog Converter; Published: 8-Jun-2000; LatestRevisionDate: 06-Jun-2005; LatestRevisionNote: Stylized 3D Model Added.; DatasheetVersion: 1996~1997; PackageVersion: revD; PackageReference: 218D; Publisher: Altium Limited; PackageDescription: DIP; 18 Leads; Row Spacing 7.62 mm; Pitch 2.54 mm; ComponentLink1Description: Manufacturer Link; ComponentLink1URL: http://www.ti.com/; ComponentLink2Description: Datasheet; ComponentLink2URL: http://www-s.ti.com/sc/ds/dac7541.pdf
footprint 218D (DIP; 18 Leads; Row Spacing 7.62 mm; Pitch 2.54 mm)
3D model DIP18 (DIP; 18 Leads; Row Spacing 7.62 mm; Pitch 2.54 mm)
pins: 1 IOUT 1 (out), 2 IOUT 2 (out), 3 GND (power), 4 B1 (in), 5 B2 (in), 6 B3 (in), 7 B4 (in), 8 B5 (in), 9 B6 (in), 10 B7 (in), 11 B8 (in), 12 B9 (in), 13 B10 (in), 14 B11 (in), 15 B12 (in), 16 VDD (power), 17 VREF, 18 RFB (in)

## DAC7541AKU
designator U?
Low-Cost 12-Bit CMOS Four-Quadrant Multiplying Digital-to-Analog Converter; Published: 8-Jun-2000; LatestRevisionDate: 13-Apr-2006; LatestRevisionNote: IPC-7351 Footprint Added.; DatasheetVersion: Sep-1993; PackageReference: 219E; Publisher: Altium Limited; PackageDescription: 18-Pin Small Outline Integrated Circuit 1.27 mm Pitch; Code_JEDEC: MS-013-AB; ComponentLink1Description: Manufacturer Link; ComponentLink1URL: http://www.ti.com/; ComponentLink2Description: Datasheet; ComponentLink2URL: http://www-s.ti.com/sc/ds/DAC7541.pdf
footprint 219E_N (SOIC, 18-Leads, Body 11.6x7.5mm, Pitch 1.27mm, IPC Medium Density)
footprint 219E_L (SOIC, 18-Leads, Body 11.6x7.5mm, Pitch 1.27mm, IPC High Density)
footprint 219E_M (SOIC, 18-Leads, Body 11.6x7.5mm, Pitch 1.27mm, IPC Low Density)
3D model 219E (18-Pin Small Outline Integrated Circuit 1.27 mm Pitch)
pins: 1 IOUT 1 (out), 2 IOUT 2 (out), 3 GND (power), 4 B1 (in), 5 B2 (in), 6 B3 (in), 7 B4 (in), 8 B5 (in), 9 B6 (in), 10 B7 (in), 11 B8 (in), 12 B9 (in), 13 B10 (in), 14 B11 (in), 15 B12 (in), 16 VDD (power), 17 VREF, 18 RFB (in)

## DAC7545GLP
designator U?
CMOS 12-Bit Multiplying Digital-to-Analog Converter Microprocessor Compatible; Published: 8-Jun-2000; LatestRevisionDate: 06-Jun-2005; LatestRevisionNote: Stylized 3D Model Added.; DatasheetVersion: Aug-1997; PackageVersion: revC; PackageReference: 222C; Publisher: Altium Limited; PackageDescription: DIP; 20 Leads; Row Spacing 7.62 mm; Pitch 2.54 mm; Code_JEDEC: MS-001-AD; ComponentLink1Description: Manufacturer Link; ComponentLink1URL: http://www.ti.com/; ComponentLink2Description: Datasheet; ComponentLink2URL: http://www-s.ti.com/sc/ds/DAC7545.pdf
footprint 222C (DIP; 20 Leads; Row Spacing 7.62 mm; Pitch 2.54 mm)
3D model 222 (DIP; 20 Leads; Row Spacing 7.62 mm; Pitch 2.54 mm)
pins: 1 OUT1 (out), 2 AGND (power), 3 DGND (power), 4 DB11 (in), 5 DB10 (in), 6 DB9 (in), 7 DB8 (in), 8 DB7 (in), 9 DB6 (in), 10 DB5 (in), 11 DB4 (in), 12 DB3 (in), 13 DB2 (in), 14 DB1 (in), 15 DB0 (in), 16 ~{CS} (in), 17 ~{WR} (in), 18 VDD (power), 19 V REF, 20 RFB (in)

## DAC7545GLU
designator U?
CMOS 12-Bit Multiplying Digital-to-Analog Converter Microprocessor Compatible; Published: 8-Jun-2000; LatestRevisionDate: 13-Apr-2006; LatestRevisionNote: IPC-7351 Footprint Added.; DatasheetVersion: Aug-1997; PackageReference: 221D; Publisher: Altium Limited; PackageDescription: 20-Pin Small Outline Integrated Circuit 1.27 mm Pitch; Code_JEDEC: MS-013-AC; Code_IPC: SOIC127P1030-20; ComponentLink1Description: Manufacturer Link; ComponentLink1URL: http://www.ti.com/; ComponentLink2Description: Datasheet; ComponentLink2URL: http://www-s.ti.com/sc/ds/DAC7545.pdf
footprint 221D_N (SOIC, 20-Leads, Body 12.8x7.5mm, Pitch 1.27mm, IPC Medium Density)
footprint 221D_L (SOIC, 20-Leads, Body 12.8x7.5mm, Pitch 1.27mm, IPC High Density)
footprint 221D_M (SOIC, 20-Leads, Body 12.8x7.5mm, Pitch 1.27mm, IPC Low Density)
3D model 221 (20-Pin Small Outline Integrated Circuit 1.27 mm Pitch)
pins: 1 OUT1 (out), 2 AGND (power), 3 DGND (power), 4 DB11 (in), 5 DB10 (in), 6 DB9 (in), 7 DB8 (in), 8 DB7 (in), 9 DB6 (in), 10 DB5 (in), 11 DB4 (in), 12 DB3 (in), 13 DB2 (in), 14 DB1 (in), 15 DB0 (in), 16 ~{CS} (in), 17 ~{WR} (in), 18 VDD (power), 19 V REF, 20 RFB (in)

## DAC7545JP
designator U?
CMOS 12-Bit Multiplying Digital-to-Analog Converter Microprocessor Compatible; Published: 8-Jun-2000; LatestRevisionDate: 06-Jun-2005; LatestRevisionNote: Stylized 3D Model Added.; DatasheetVersion: Aug-1997; PackageVersion: revC; PackageReference: 222C; Publisher: Altium Limited; PackageDescription: DIP; 20 Leads; Row Spacing 7.62 mm; Pitch 2.54 mm; Code_JEDEC: MS-001-AD; ComponentLink1Description: Manufacturer Link; ComponentLink1URL: http://www.ti.com/; ComponentLink2Description: Datasheet; ComponentLink2URL: http://www-s.ti.com/sc/ds/DAC7545.pdf
footprint 222C (DIP; 20 Leads; Row Spacing 7.62 mm; Pitch 2.54 mm)
3D model 222 (DIP; 20 Leads; Row Spacing 7.62 mm; Pitch 2.54 mm)
pins: 1 OUT1 (out), 2 AGND (power), 3 DGND (power), 4 DB11 (in), 5 DB10 (in), 6 DB9 (in), 7 DB8 (in), 8 DB7 (in), 9 DB6 (in), 10 DB5 (in), 11 DB4 (in), 12 DB3 (in), 13 DB2 (in), 14 DB1 (in), 15 DB0 (in), 16 ~{CS} (in), 17 ~{WR} (in), 18 VDD (power), 19 V REF, 20 RFB (in)

## DAC7545JU
designator U?
CMOS 12-Bit Multiplying Digital-to-Analog Converter Microprocessor Compatible; Published: 8-Jun-2000; LatestRevisionDate: 13-Apr-2006; LatestRevisionNote: IPC-7351 Footprint Added.; DatasheetVersion: Aug-1997; PackageReference: 221D; Publisher: Altium Limited; PackageDescription: 20-Pin Small Outline Integrated Circuit 1.27 mm Pitch; Code_JEDEC: MS-013-AC; Code_IPC: SOIC127P1030-20; ComponentLink1Description: Manufacturer Link; ComponentLink1URL: http://www.ti.com/; ComponentLink2Description: Datasheet; ComponentLink2URL: http://www-s.ti.com/sc/ds/DAC7545.pdf
footprint 221D_N (SOIC, 20-Leads, Body 12.8x7.5mm, Pitch 1.27mm, IPC Medium Density)
footprint 221D_L (SOIC, 20-Leads, Body 12.8x7.5mm, Pitch 1.27mm, IPC High Density)
footprint 221D_M (SOIC, 20-Leads, Body 12.8x7.5mm, Pitch 1.27mm, IPC Low Density)
3D model 221 (20-Pin Small Outline Integrated Circuit 1.27 mm Pitch)
pins: 1 OUT1 (out), 2 AGND (power), 3 DGND (power), 4 DB11 (in), 5 DB10 (in), 6 DB9 (in), 7 DB8 (in), 8 DB7 (in), 9 DB6 (in), 10 DB5 (in), 11 DB4 (in), 12 DB3 (in), 13 DB2 (in), 14 DB1 (in), 15 DB0 (in), 16 ~{CS} (in), 17 ~{WR} (in), 18 VDD (power), 19 V REF, 20 RFB (in)

## DAC7545KP
designator U?
CMOS 12-Bit Multiplying Digital-to-Analog Converter Microprocessor Compatible; Published: 8-Jun-2000; LatestRevisionDate: 06-Jun-2005; LatestRevisionNote: Stylized 3D Model Added.; DatasheetVersion: Aug-1997; PackageVersion: revC; PackageReference: 222C; Publisher: Altium Limited; PackageDescription: DIP; 20 Leads; Row Spacing 7.62 mm; Pitch 2.54 mm; Code_JEDEC: MS-001-AD; ComponentLink1Description: Manufacturer Link; ComponentLink1URL: http://www.ti.com/; ComponentLink2Description: Datasheet; ComponentLink2URL: http://www-s.ti.com/sc/ds/DAC7545.pdf
footprint 222C (DIP; 20 Leads; Row Spacing 7.62 mm; Pitch 2.54 mm)
3D model 222 (DIP; 20 Leads; Row Spacing 7.62 mm; Pitch 2.54 mm)
pins: 1 OUT1 (out), 2 AGND (power), 3 DGND (power), 4 DB11 (in), 5 DB10 (in), 6 DB9 (in), 7 DB8 (in), 8 DB7 (in), 9 DB6 (in), 10 DB5 (in), 11 DB4 (in), 12 DB3 (in), 13 DB2 (in), 14 DB1 (in), 15 DB0 (in), 16 ~{CS} (in), 17 ~{WR} (in), 18 VDD (power), 19 V REF, 20 RFB (in)

## DAC7545KU
designator U?
CMOS 12-Bit Multiplying Digital-to-Analog Converter Microprocessor Compatible; Published: 8-Jun-2000; LatestRevisionDate: 13-Apr-2006; LatestRevisionNote: IPC-7351 Footprint Added.; DatasheetVersion: Aug-1997; PackageReference: 221D; Publisher: Altium Limited; PackageDescription: 20-Pin Small Outline Integrated Circuit 1.27 mm Pitch; Code_JEDEC: MS-013-AC; Code_IPC: SOIC127P1030-20; ComponentLink1Description: Manufacturer Link; ComponentLink1URL: http://www.ti.com/; ComponentLink2Description: Datasheet; ComponentLink2URL: http://www-s.ti.com/sc/ds/DAC7545.pdf
footprint 221D_N (SOIC, 20-Leads, Body 12.8x7.5mm, Pitch 1.27mm, IPC Medium Density)
footprint 221D_L (SOIC, 20-Leads, Body 12.8x7.5mm, Pitch 1.27mm, IPC High Density)
footprint 221D_M (SOIC, 20-Leads, Body 12.8x7.5mm, Pitch 1.27mm, IPC Low Density)
3D model 221 (20-Pin Small Outline Integrated Circuit 1.27 mm Pitch)
pins: 1 OUT1 (out), 2 AGND (power), 3 DGND (power), 4 DB11 (in), 5 DB10 (in), 6 DB9 (in), 7 DB8 (in), 8 DB7 (in), 9 DB6 (in), 10 DB5 (in), 11 DB4 (in), 12 DB3 (in), 13 DB2 (in), 14 DB1 (in), 15 DB0 (in), 16 ~{CS} (in), 17 ~{WR} (in), 18 VDD (power), 19 V REF, 20 RFB (in)

## DAC7545LP
designator U?
CMOS 12-Bit Multiplying Digital-to-Analog Converter Microprocessor Compatible; Published: 8-Jun-2000; LatestRevisionDate: 06-Jun-2005; LatestRevisionNote: Stylized 3D Model Added.; DatasheetVersion: Aug-1997; PackageVersion: revC; PackageReference: 222C; Publisher: Altium Limited; PackageDescription: DIP; 20 Leads; Row Spacing 7.62 mm; Pitch 2.54 mm; Code_JEDEC: MS-001-AD; ComponentLink1Description: Manufacturer Link; ComponentLink1URL: http://www.ti.com/; ComponentLink2Description: Datasheet; ComponentLink2URL: http://www-s.ti.com/sc/ds/DAC7545.pdf
footprint 222C (DIP; 20 Leads; Row Spacing 7.62 mm; Pitch 2.54 mm)
3D model 222 (DIP; 20 Leads; Row Spacing 7.62 mm; Pitch 2.54 mm)
pins: 1 OUT1 (out), 2 AGND (power), 3 DGND (power), 4 DB11 (in), 5 DB10 (in), 6 DB9 (in), 7 DB8 (in), 8 DB7 (in), 9 DB6 (in), 10 DB5 (in), 11 DB4 (in), 12 DB3 (in), 13 DB2 (in), 14 DB1 (in), 15 DB0 (in), 16 ~{CS} (in), 17 ~{WR} (in), 18 VDD (power), 19 V REF, 20 RFB (in)

## DAC7545LU
designator U?
CMOS 12-Bit Multiplying Digital-to-Analog Converter Microprocessor Compatible; Published: 8-Jun-2000; LatestRevisionDate: 13-Apr-2006; LatestRevisionNote: IPC-7351 Footprint Added.; DatasheetVersion: Aug-1997; PackageReference: 221D; Publisher: Altium Limited; PackageDescription: 20-Pin Small Outline Integrated Circuit 1.27 mm Pitch; Code_JEDEC: MS-013-AC; Code_IPC: SOIC127P1030-20; ComponentLink1Description: Manufacturer Link; ComponentLink1URL: http://www.ti.com/; ComponentLink2Description: Datasheet; ComponentLink2URL: http://www-s.ti.com/sc/ds/DAC7545.pdf
footprint 221D_N (SOIC, 20-Leads, Body 12.8x7.5mm, Pitch 1.27mm, IPC Medium Density)
footprint 221D_L (SOIC, 20-Leads, Body 12.8x7.5mm, Pitch 1.27mm, IPC High Density)
footprint 221D_M (SOIC, 20-Leads, Body 12.8x7.5mm, Pitch 1.27mm, IPC Low Density)
3D model 221 (20-Pin Small Outline Integrated Circuit 1.27 mm Pitch)
pins: 1 OUT1 (out), 2 AGND (power), 3 DGND (power), 4 DB11 (in), 5 DB10 (in), 6 DB9 (in), 7 DB8 (in), 8 DB7 (in), 9 DB6 (in), 10 DB5 (in), 11 DB4 (in), 12 DB3 (in), 13 DB2 (in), 14 DB1 (in), 15 DB0 (in), 16 ~{CS} (in), 17 ~{WR} (in), 18 VDD (power), 19 V REF, 20 RFB (in)

## DAC7800KP
designator U?
Dual Monolithic CMOS 12-Bit Multiplying Digital-to-Analog Converters; Published: 8-Jun-2000; LatestRevisionDate: 06-Jun-2005; LatestRevisionNote: Stylized 3D Model Added.; DatasheetVersion: Jan-1998; PackageVersion: revF; PackageReference: ZZ180; Publisher: Altium Limited; PackageDescription: DIP, Plastic; 16 Leads; Row Spacing 7.62 mm; Pitch 2.54 mm; Code_JEDEC: MS-001-BB; ComponentLink1Description: Manufacturer Link; ComponentLink1URL: http://www.ti.com/; ComponentLink2Description: Datasheet; ComponentLink2URL: http://www-s.ti.com/sc/ds/DAC7800.pdf
footprint ZZ180 (DIP, Plastic; 16 Leads; Row Spacing 7.62 mm; Pitch 2.54 mm)
3D model ZZ180 (DIP, Plastic; 16 Leads; Row Spacing 7.62 mm; Pitch 2.54 mm)
pins: 1 AGND A (power), 2 OUT A (out), 3 RFB A (in), 4 VREF A, 5 CLK (in), 6 ~{UPD} A (in), 7 D IN (in), 8 ~{CS} (in), 9 DGND (power), 10 ~{UPD} B (in), 11 ~{CLR} (in), 12 VDD (power), 13 VREF B, 14 RFB B (in), 15 OUT B (out), 16 AGND B (power)

## DAC7800KU
designator U?
Dual Monolithic CMOS 12-Bit Multiplying Digital-to-Analog Converters; Published: 8-Jun-2000; LatestRevisionDate: 13-Apr-2006; LatestRevisionNote: IPC-7351 Footprint Added.; DatasheetVersion: Jan-1998; PackageReference: 211F; Publisher: Altium Limited; PackageDescription: 16-Pin Small Outline Integrated Circuit 1.27 mm Pitch; Code_JEDEC: MS-013-AA; Code_IPC: SOIC127P1030-16; ComponentLink1Description: Manufacturer Link; ComponentLink1URL: http://www.ti.com/; ComponentLink2Description: Datasheet; ComponentLink2URL: http://www-s.ti.com/sc/ds/DAC7800.pdf
footprint 211F_N (SOIC, 16-Leads, Body 10.3x7.5mm, Pitch 1.27mm, IPC Medium Density)
footprint 211F_L (SOIC, 16-Leads, Body 10.3x7.5mm, Pitch 1.27mm, IPC High Density)
footprint 211F_M (SOIC, 16-Leads, Body 10.3x7.5mm, Pitch 1.27mm, IPC Low Density)
3D model SOIC16 (16-Pin Small Outline Integrated Circuit 1.27 mm Pitch)
pins: 1 AGND A (power), 2 OUT A (out), 3 RFB A (in), 4 VREF A, 5 CLK (in), 6 ~{UPD} A (in), 7 D IN (in), 8 ~{CS} (in), 9 DGND (power), 10 ~{UPD} B (in), 11 ~{CLR} (in), 12 VDD (power), 13 VREF B, 14 RFB B (in), 15 OUT B (out), 16 AGND B (power)